# EAGLE library part DS1088L_ (library Schuyler)
MAXIM DS1088L Fixed frequency EconOscillator. Factory programmed between 321kHz and 133MHz. http://datasheets.maximintegrated.com/en/ds/DS1088-DS1088L.pdf
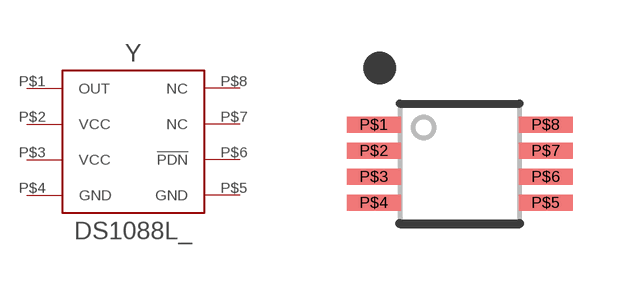
[diagram p16: symbol with the pads of UMAX8; footprint UMAX8]

Designator prefix Y

## DS1088L_100MHZ (MANPARTNUMBER: DS1088LU-100+; MANUFACTURER: Maxim Integrated; PARTNUMBER: DS1088LU-100+-ND; SUPPLIER: DIGIKEY; VERIFIED: FALSE)  [UMAX8]
P$1  OUT  out
P$2  VCC  pwr
P$3  VCC  pwr
P$4  GND  pwr
P$5  GND  pwr
P$6  !PDN  in
P$7  NC  nc
P$8  NC  nc

## DS1088L_16.6MHZ (MANPARTNUMBER: DS1088LU-16+; MANUFACTURER: Maxim Integrated; PARTNUMBER: DS1088LU-16+-ND; SUPPLIER: DIGIKEY; VERIFIED: False)  [UMAX8]
Pads as for UMAX8

## DS1088L_10MHZ (MANPARTNUMBER: DS1088LU-10+; MANUFACTURER: Maxim Integrated; PARTNUMBER: DS1088LU-10+-ND; SUPPLIER: DIGIKEY; VERIFIED: FALSE)  [UMAX8]
Pads as for UMAX8

## Footprint UMAX8 (pad centres in mm)
Maxum uSOP 8 pin land pattern decribed here: http://pdfserv.maximintegrated.com/land_patterns/90-0092.PDF
smd 1.35 x 0.4: P$1 -2.15,0.975; P$2 -2.15,0.325; P$3 -2.15,-0.325; P$4 -2.15,-0.975; P$5 2.15,-0.975; P$6 2.15,-0.325; P$7 2.15,0.325; P$8 2.15,0.975